# Altium schematic symbol library 5223004-2.SchLib: 1 symbol
Pins are listed as number, name and electrical type; pins without a type are passive.

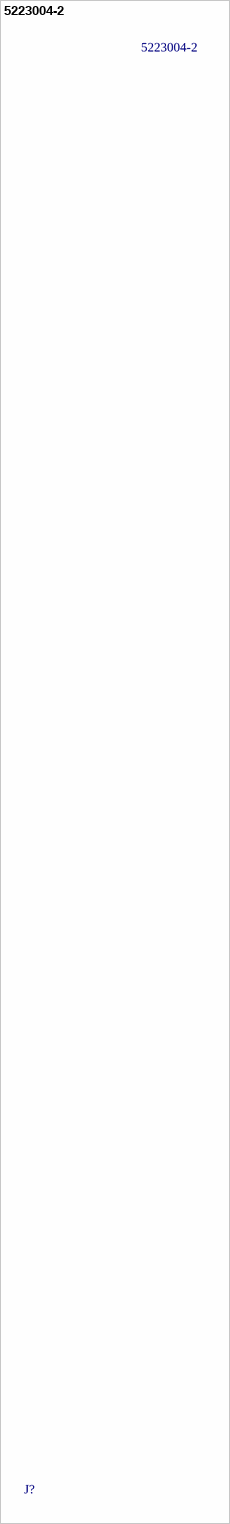
[diagram p0: symbol 5223004-2]

## 5223004-2
designator J?
Conn Backplane RCP 60 POS 2mm Solder RA Thru-Hole Tube; Manufacturer_Name: TE Connectivity; Geometry.Height: 14mm; Mouser Part Number: 571-5223004-2; Mouser Price/Stock: https://www.mouser.co.uk/ProductDetail/TE-Connectivity/5223004-2?qs=oNRo%252BTjlpTO6tP0xSX%252BI3w%3D%3D; Manufacturer_Part_Number: 5223004-2; Datasheet Link: https://www.te.com/commerce/DocumentDelivery/DDEController?Action=srchrtrv&DocNm=5223004&DocType=Customer+Drawing&DocLang=English